# EAGLE library part LT3757 (library RoboJackets-ICs)
Boost, Flyback, SEPIC Regulator Positive and Negative Output Step-Up, Step-Up/Step-Down - DC-DC Controller IC 10-MSOP-EP DigiKey <https://www.digikey.com/en/products/detail/analog-devices-inc/LT3757EMSE-TRPBF/2107818>
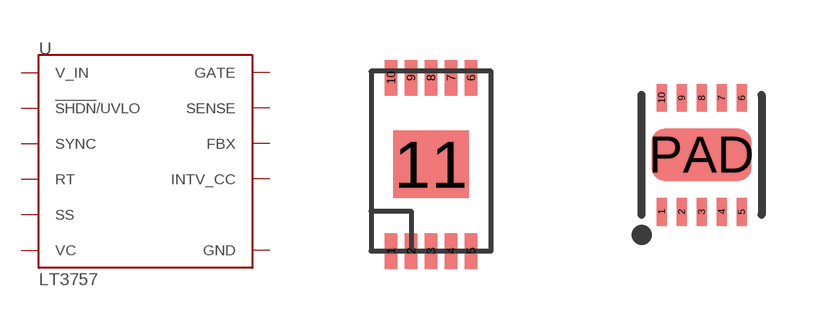
[diagram p0: symbol with the pads of MSOP-10-MSE; footprints MSOP-10-MSE, DFN-10]

Designator prefix U

## LT3757 (DKPN: LT3757EMSE#PBF-ND)  [MSOP-10-MSE]
1  VC
2  FBX
3  SS
4  RT
5  SYNC
6  SENSE
7  GATE
8  INTV_CC
9  !SHDN!/UVLO
10  V_IN
11  GND

## LT3757DFN-10 (DKPN: T3757AEDD#TRPBFCT-ND)  [DFN-10]
1  VC
2  FBX
3  SS
4  RT
5  SYNC
6  SENSE
7  GATE
8  INTV_CC
9  !SHDN!/UVLO
10  V_IN
PAD  GND

## Footprint MSOP-10-MSE (pad centres in mm)
smd 0.305 x 0.889: 1 0,0; 2 0.5,0; 3 1,0; 4 1.5,0; 5 2,0; 6 2,4.34; 7 1.5,4.34; 8 1,4.34; 9 0.5,4.34; 10 0,4.34
smd 1.88 x 1.68: 11 1,2.17

## Footprint DFN-10 (pad centres in mm)
smd 0.25 x 0.7: 1 -1,-1.425; 2 -0.5,-1.425; 3 0,-1.425; 4 0.5,-1.425; 5 1,-1.425; 6 1,1.425; 7 0.5,1.425; 8 0,1.425; 9 -0.5,1.425; 10 -1,1.425
smd 2.5 x 1.3: PAD 0,0